# Altium schematic symbol library SCH - SWITCH IC - DUAL SPDT 10QFN.SCHLIB: 1 symbol
Pins are listed as number, name and electrical type; pins without a type are passive.

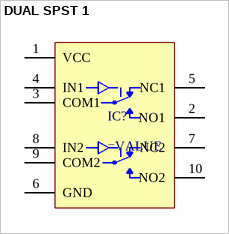
[diagram p0: symbol DUAL SPST 1]

## DUAL SPST 1
designator IC?
pins: 1 VCC, 2 NO1, 3 COM1, 4 IN1, 5 NC1, 6 GND, 7 NC2, 8 IN2, 9 COM2, 10 NO2